# EAGLE library part ATMEGA128 (library dimrobotics)
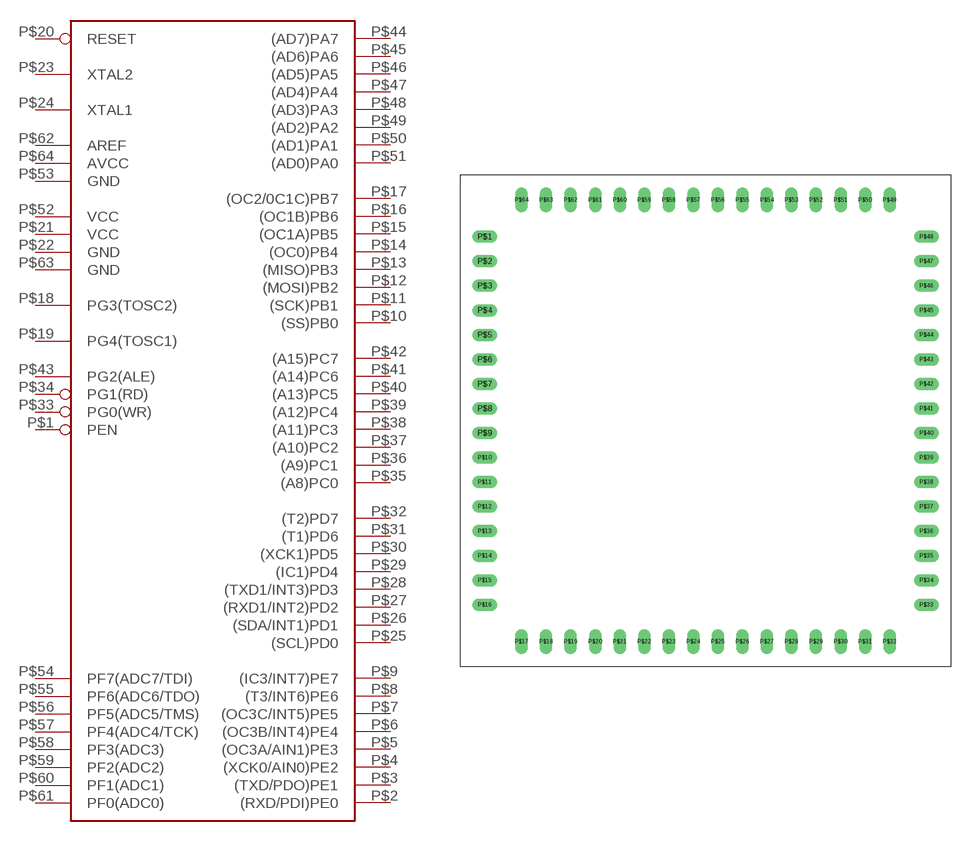
[diagram p2: symbol with the pads of SQUARE-16X4; footprint SQUARE-16X4]

Designator prefix -

## ATMEGA128  [SQUARE-16X4]
P$1  PEN  in
P$2  (RXD/PDI)PE0
P$3  (TXD/PDO)PE1
P$4  (XCK0/AIN0)PE2
P$5  (OC3A/AIN1)PE3
P$6  (OC3B/INT4)PE4
P$7  (OC3C/INT5)PE5
P$8  (T3/INT6)PE6
P$9  (IC3/INT7)PE7
P$10  (SS)PB0
P$11  (SCK)PB1
P$12  (MOSI)PB2
P$13  (MISO)PB3
P$14  (OC0)PB4
P$15  (OC1A)PB5
P$16  (OC1B)PB6
P$17  (OC2/0C1C)PB7
P$18  PG3(TOSC2)
P$19  PG4(TOSC1)
P$20  RESET  in
P$21  VCC  pwr
P$22  GND  pwr
P$23  XTAL2
P$24  XTAL1
P$25  (SCL)PD0
P$26  (SDA/INT1)PD1
P$27  (RXD1/INT2)PD2
P$28  (TXD1/INT3)PD3
P$29  (IC1)PD4
P$30  (XCK1)PD5
P$31  (T1)PD6
P$32  (T2)PD7
P$33  PG0(WR)
P$34  PG1(RD)
P$35  (A8)PC0  out
P$36  (A9)PC1  out
P$37  (A10)PC2  out
P$38  (A11)PC3  out
P$39  (A12)PC4  out
P$40  (A13)PC5  out
P$41  (A14)PC6  out
P$42  (A15)PC7  out
P$43  PG2(ALE)
P$44  (AD7)PA7
P$45  (AD6)PA6
P$46  (AD5)PA5
P$47  (AD4)PA4
P$48  (AD3)PA3
P$49  (AD2)PA2
P$50  (AD1)PA1
P$51  (AD0)PA0
P$52  VCC  pwr
P$53  GND  pwr
P$54  PF7(ADC7/TDI)  in
P$55  PF6(ADC6/TDO)  in
P$56  PF5(ADC5/TMS)  in
P$57  PF4(ADC4/TCK)  in
P$58  PF3(ADC3)  in
P$59  PF2(ADC2)  in
P$60  PF1(ADC1)  in
P$61  PF0(ADC0)  in
P$62  AREF  pwr
P$63  GND  pwr
P$64  AVCC  pwr

## Footprint SQUARE-16X4 (pad centres in mm)
drill 0.8 long: P$1 -22.86,19.05; P$2 -22.86,16.51; P$3 -22.86,13.97; P$4 -22.86,11.43; P$5 -22.86,8.89; P$6 -22.86,6.35; P$7 -22.86,3.81; P$8 -22.86,1.27; P$9 -22.86,-1.27; P$10 -22.86,-3.81; P$11 -22.86,-6.35; P$12 -22.86,-8.89; P$13 -22.86,-11.43; P$14 -22.86,-13.97; P$15 -22.86,-16.51; P$16 -22.86,-19.05; P$17 -19.05,-22.86; P$18 -16.51,-22.86; P$19 -13.97,-22.86; P$20 -11.43,-22.86; P$21 -8.89,-22.86; P$22 -6.35,-22.86; P$23 -3.81,-22.86; P$24 -1.27,-22.86; P$25 1.27,-22.86; P$26 3.81,-22.86; P$27 6.35,-22.86; P$28 8.89,-22.86; P$29 11.43,-22.86; P$30 13.97,-22.86; P$31 16.51,-22.86; P$32 19.05,-22.86; P$33 22.86,-19.05; P$34 22.86,-16.51; P$35 22.86,-13.97; P$36 22.86,-11.43; P$37 22.86,-8.89; P$38 22.86,-6.35; P$39 22.86,-3.81; P$40 22.86,-1.27; P$41 22.86,1.27; P$42 22.86,3.81; P$43 22.86,6.35; P$44 22.86,8.89; P$45 22.86,11.43; P$46 22.86,13.97; P$47 22.86,16.51; P$48 22.86,19.05; P$49 19.05,22.86; P$50 16.51,22.86; P$51 13.97,22.86; P$52 11.43,22.86; P$53 8.89,22.86; P$54 6.35,22.86; P$55 3.81,22.86; P$56 1.27,22.86; P$57 -1.27,22.86; P$58 -3.81,22.86; P$59 -6.35,22.86; P$60 -8.89,22.86; P$61 -11.43,22.86; P$62 -13.97,22.86; P$63 -16.51,22.86; P$64 -19.05,22.86